# Altium schematic symbol library Toggle.SchLib: 8 symbols
Pins are listed as number, name and electrical type; pins without a type are passive.

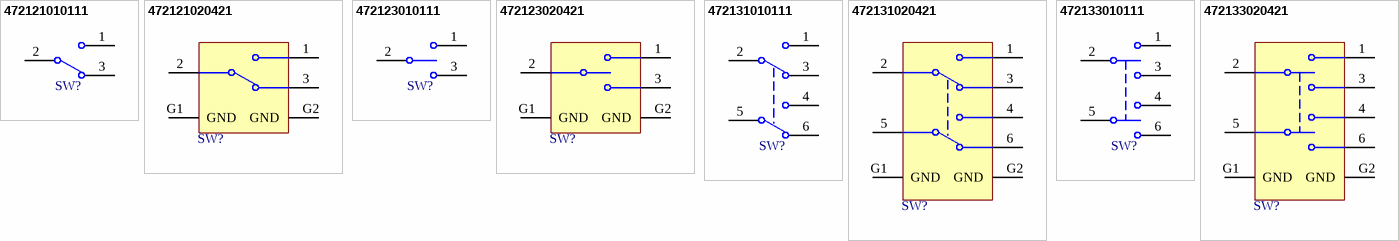
[diagram p0: symbols 472121010111 to 472133020421]

## 472121010111
designator SW?  (value not drawn)
WS-TOTV Ø 6.35mm Panel Cut-Out Vertical Operation Toggle Switch, SPDT, ON-ON, 30V, 1A; Manufacturer: Wurth Elektronik; Actuator Length: 10.4mm; Bushing Length: 9mm; Insulation Resistance: 1000MOhm; Withstanding Voltage: 500VAC; Manufacturer Part Number: 472121010111; Category: Toggle Switches; Match Code: WS-TOTV; Mount: Through Hole; Operating Temperature Max: 85°C; Operating Temperature Min: -40°C; Packaging: Tray; Length: 12.7mm; Width: 6.6mm; Height: 28.2mm; Circuit: SPDT; Rated Current: 1A; Rated Voltage (DC): 30V; Switching Function: ON-ON; Supplier 2 URL: https://www.mouser.com/ProductDetail/Wurth-Elektronik/472121010111?qs=ufv2HEpFn%252BQVepSzX5xo1g%3D%3D; Supplier 2 URL: https://www.digikey.com/en/products/detail/w%C3%BCrth-elektronik/472121010111/18735354; Supplier 3 URL: N/A; LCSC Part #: N/A; ComponentLink1Description: Datasheet; ComponentLink1URL: https://www.we-online.com/redexpert/spec/472121010111?ad; Supplier 1: Mouser; Supplier 1 Part Number: 710-472121010111; Supplier 1 URL: N/A; Supplier 2: Digi-Key; Supplier 2 Part Number: 732-472121010111-ND; Supplier 3: thegioiic; Supplier 3 Part Number: OEM; Value: 472121010111
footprint 472121010111
pins: 1, 2, 3

## 472121020421
designator SW?  (value not drawn)
WS-TOTV Ø 6.35mm Panel Cut-Out Right Angle Operation Toggle Switch, SPDT, ON-ON, 30V, 1A; Manufacturer: Wurth Elektronik; Actuator Length: 6.7mm; Insulation Resistance: 1000MOhm; Withstanding Voltage: 500VAC; Manufacturer Part Number: 472121020421; Category: Toggle Switches; Match Code: WS-TOTV; Mount: Through Hole; Operating Temperature Max: 85°C; Operating Temperature Min: -40°C; Packaging: Tray; Length: 12.7mm; Width: 22.6mm; Height: 6.6mm; Bushing Length: 6.7mm; Circuit: SPDT; Rated Current: 1A; Rated Voltage (DC): 30V; Switching Function: ON-ON; Supplier 2 URL: https://www.mouser.com/ProductDetail/Wurth-Elektronik/472121020421?qs=ufv2HEpFn%252BQSoNsZ3daIcw%3D%3D; Supplier 2 URL: https://www.digikey.com/en/products/detail/w%C3%BCrth-elektronik/472121020421/18735383; Supplier 3 URL: N/A; LCSC Part #: N/A; ComponentLink1Description: Datasheet; ComponentLink1URL: https://www.we-online.com/redexpert/spec/472121020421?ad; Supplier 1: Mouser; Supplier 1 Part Number: 710-472121020421; Supplier 1 URL: N/A; Supplier 2: Digi-Key; Supplier 2 Part Number: 732-472121020421-ND; Supplier 3: thegioiic; Supplier 3 Part Number: OEM; Value: 472121020421
footprint 472121020421
pins: 1, 2, 3, G1 GND, G2 GND

## 472123010111
designator SW?  (value not drawn)
WS-TOTV Ø 6.35mm Panel Cut-Out Vertical Operation Toggle Switch, SPDT, ON-OFF-ON, 30V, 1A; Manufacturer: Wurth Elektronik; Actuator Length: 10.7mm; Bushing Length: 9mm; Insulation Resistance: 1000MOhm; Withstanding Voltage: 500VAC; Manufacturer Part Number: 472123010111; Category: Toggle Switches; Match Code: WS-TOTV; Mount: Through Hole; Operating Temperature Max: 85°C; Operating Temperature Min: -40°C; Packaging: Tray; Length: 12.7mm; Width: 6.6mm; Height: 28.5mm; Circuit: SPDT; Rated Current: 1A; Rated Voltage (DC): 30V; Switching Function: ON-OFF-ON; Supplier 2 URL: https://www.mouser.com/ProductDetail/Wurth-Elektronik/472123010111?qs=ufv2HEpFn%252BS%2Fx6phQxj%2FUQ%3D%3D; Supplier 2 URL: https://www.digikey.com/en/products/detail/w%C3%BCrth-elektronik/472123010111/18735355; Supplier 3 URL: N/A; LCSC Part #: N/A; ComponentLink1Description: Datasheet; ComponentLink1URL: https://www.we-online.com/redexpert/spec/472123010111?ad; Supplier 1: Mouser; Supplier 1 Part Number: 710-472123010111; Supplier 1 URL: N/A; Supplier 2: Digi-Key; Supplier 2 Part Number: 732-472123010111-ND; Supplier 3: thegioiic; Supplier 3 Part Number: OEM; Value: 472123010111
footprint 472123010111
pins: 1, 2, 3

## 472123020421
designator SW?  (value not drawn)
WS-TOTV Ø 6.35mm Panel Cut-Out Right Angle Operation Toggle Switch, SPDT, ON-OFF-ON, 30V, 1A; Manufacturer: Wurth Elektronik; Actuator Length: 7mm; Insulation Resistance: 1000MOhm; Withstanding Voltage: 500VAC; Manufacturer Part Number: 472123020421; Category: Toggle Switches; Match Code: WS-TOTV; Mount: Through Hole; Operating Temperature Max: 85°C; Operating Temperature Min: -40°C; Packaging: Tray; Length: 12.7mm; Width: 22.9mm; Height: 6.6mm; Bushing Length: 7mm; Circuit: SPDT; Rated Current: 1A; Rated Voltage (DC): 30V; Switching Function: ON-OFF-ON; Supplier 2 URL: https://www.mouser.com/ProductDetail/Wurth-Elektronik/472123020421?qs=ufv2HEpFn%252BSjVpf9eX53NQ%3D%3D; Supplier 2 URL: https://www.digikey.com/en/products/detail/w%C3%BCrth-elektronik/472123020421/18735346; Supplier 3 URL: N/A; LCSC Part #: N/A; ComponentLink1Description: Datasheet; ComponentLink1URL: https://www.we-online.com/redexpert/spec/472123020421?ad; Supplier 1: Mouser; Supplier 1 Part Number: 710-472123020421; Supplier 1 URL: N/A; Supplier 2: Digi-Key; Supplier 2 Part Number: 732-472123020421-ND; Supplier 3: thegioiic; Supplier 3 Part Number: OEM; Value: 472123020421
footprint 472123020421
pins: 1, 2, 3, G1 GND, G2 GND

## 472131010111
designator SW?  (value not drawn)
WS-TOTV Ø 6.35mm Panel Cut-Out Vertical Operation Toggle Switch, DPDT, ON-ON, 30V, 1A; Manufacturer: Wurth Elektronik; Actuator Length: 10.4mm; Bushing Length: 9mm; Insulation Resistance: 1000MOhm; Withstanding Voltage: 500VAC; Manufacturer Part Number: 472131010111; Category: Toggle Switches; Match Code: WS-TOTV; Mount: Through Hole; Operating Temperature Max: 85°C; Operating Temperature Min: -40°C; Packaging: Tray; Length: 12.7mm; Width: 11.4mm; Height: 29.6mm; Circuit: DPDT; Rated Current: 1A; Rated Voltage (DC): 30V; Switching Function: ON-ON; Supplier 2 URL: https://www.mouser.com/ProductDetail/Wurth-Elektronik/472131010111?qs=ufv2HEpFn%252BT2jljNPdn4Ng%3D%3D; Supplier 2 URL: https://www.digikey.com/en/products/detail/w%C3%BCrth-elektronik/472131010111/18735373; Supplier 3 URL: N/A; LCSC Part #: N/A; ComponentLink1Description: Datasheet; ComponentLink1URL: https://www.we-online.com/redexpert/spec/472131010111?ad; Supplier 1: Mouser; Supplier 1 Part Number: 710-472131010111; Supplier 1 URL: N/A; Supplier 2: Digi-Key; Supplier 2 Part Number: 732-472131010111-ND; Supplier 3: thegioiic; Supplier 3 Part Number: OEM; Value: 472131010111
footprint 472131010111
pins: 1, 2, 3, 4, 5, 6

## 472131020421
designator SW?  (value not drawn)
WS-TOTV Ø 6.35mm Panel Cut-Out Right Angle Operation Toggle Switch, DPDT, ON-ON, 30V, 1A; Manufacturer: Wurth Elektronik; Actuator Length: 6.7mm; Insulation Resistance: 1000MOhm; Withstanding Voltage: 500VAC; Manufacturer Part Number: 472131020421; Category: Toggle Switches; Match Code: WS-TOTV; Mount: Through Hole; Operating Temperature Max: 85°C; Operating Temperature Min: -40°C; Packaging: Tray; Length: 12.7mm; Width: 22.6mm; Height: 11.4mm; Bushing Length: 6.7mm; Circuit: DPDT; Rated Current: 1A; Rated Voltage (DC): 30V; Switching Function: ON-ON; Supplier 2 URL: https://www.mouser.com/ProductDetail/Wurth-Elektronik/472131020421?qs=ufv2HEpFn%252BRpY8C6PE%252BOOw%3D%3D; Supplier 2 URL: https://www.digikey.com/en/products/detail/w%C3%BCrth-elektronik/472131020421/18735356; Supplier 3 URL: N/A; LCSC Part #: N/A; ComponentLink1Description: Datasheet; ComponentLink1URL: https://www.we-online.com/redexpert/spec/472131020421?ad; Supplier 1: Mouser; Supplier 1 Part Number: 710-472131020421; Supplier 1 URL: N/A; Supplier 2: Digi-Key; Supplier 2 Part Number: 732-472131020421-ND; Supplier 3: thegioiic; Supplier 3 Part Number: OEM; Value: 472131020421
footprint 472131020421
pins: 1, 2, 3, 4, 5, 6, G1 GND, G2 GND

## 472133010111
designator SW?  (value not drawn)
WS-TOTV Ø 6.35mm Panel Cut-Out Vertical Operation Toggle Switch, DPDT, ON-OFF-ON, 30V, 1A; Manufacturer: Wurth Elektronik; Actuator Length: 10.7mm; Bushing Length: 9mm; Insulation Resistance: 1000MOhm; Withstanding Voltage: 500VAC; Manufacturer Part Number: 472133010111; Category: Toggle Switches; Match Code: WS-TOTV; Mount: Through Hole; Operating Temperature Max: 85°C; Operating Temperature Min: -40°C; Packaging: Tray; Length: 12.7mm; Width: 11.4mm; Height: 29.9mm; Circuit: DPDT; Rated Current: 1A; Rated Voltage (DC): 30V; Switching Function: ON-OFF-ON; Supplier 2 URL: https://www.mouser.com/ProductDetail/Wurth-Elektronik/472133010111?qs=ufv2HEpFn%252BTq2VwNlVuQRw%3D%3D; Supplier 2 URL: https://www.digikey.com/en/products/detail/w%C3%BCrth-elektronik/472133010111/18735350; Supplier 3 URL: N/A; LCSC Part #: N/A; ComponentLink1Description: Datasheet; ComponentLink1URL: https://www.we-online.com/redexpert/spec/472133010111?ad; Supplier 1: Mouser; Supplier 1 Part Number: 710-472133010111; Supplier 1 URL: N/A; Supplier 2: Digi-Key; Supplier 2 Part Number: 732-472133010111-ND; Supplier 3: thegioiic; Supplier 3 Part Number: OEM; Value: 472133010111
footprint 472133010111
pins: 1, 2, 3, 4, 5, 6

## 472133020421
designator SW?  (value not drawn)
WS-TOTV Ø 6.35 mm Panel Cut-Out Right Angle Operation Toggle Switch, DPDT, ON-OFF-ON, 30V, 1A; Manufacturer: Wurth Elektronik; Actuator Length: 7mm; Bushing Length: 7.1mm; Insulation Resistance: 1000MOhm; Withstanding Voltage: 500VAC; Manufacturer Part Number: 472133020421; Category: Toggle Switches; Match Code: WS-TOTV; Mount: Through Hole; Operating Temperature Max: 85°C; Operating Temperature Min: -40°C; Packaging: Tray; Length: 12.7mm; Width: 22.9mm; Height: 11.4mm; Circuit: DPDT; Rated Current: 1A; Rated Voltage (DC): 30V; Switching Function: ON-OFF-ON; Supplier 2 URL: https://www.mouser.com/ProductDetail/Wurth-Elektronik/472133020421?qs=ufv2HEpFn%252BS3IwFsDkXC6w%3D%3D; Supplier 2 URL: https://www.digikey.com/en/products/detail/w%C3%BCrth-elektronik/472133020421/18735388; Supplier 3 URL: N/A; LCSC Part #: N/A; ComponentLink1Description: Datasheet; ComponentLink1URL: https://www.we-online.com/redexpert/spec/472133020421?ad; Supplier 1: Mouser; Supplier 1 Part Number: 710-472133020421; Supplier 1 URL: N/A; Supplier 2: Digi-Key; Supplier 2 Part Number: 732-472133020421-ND; Supplier 3: thegioiic; Supplier 3 Part Number: OEM; Value: 472133020421
footprint 472133020421
pins: 1, 2, 3, 4, 5, 6, G1 GND, G2 GND